# Altium footprint library WURTH_750035020.PcbLib: 1 footprints
Each footprint in its own frame and in the unit in brackets; x right, y up, seen from the top. Pads: shape width x height; smd on the part's side, far side on the other; paste and mask are expansions set on the pad; w line width, h text height; cw(c..) or ccw(c..) is an arc to the next point about the centre after c.
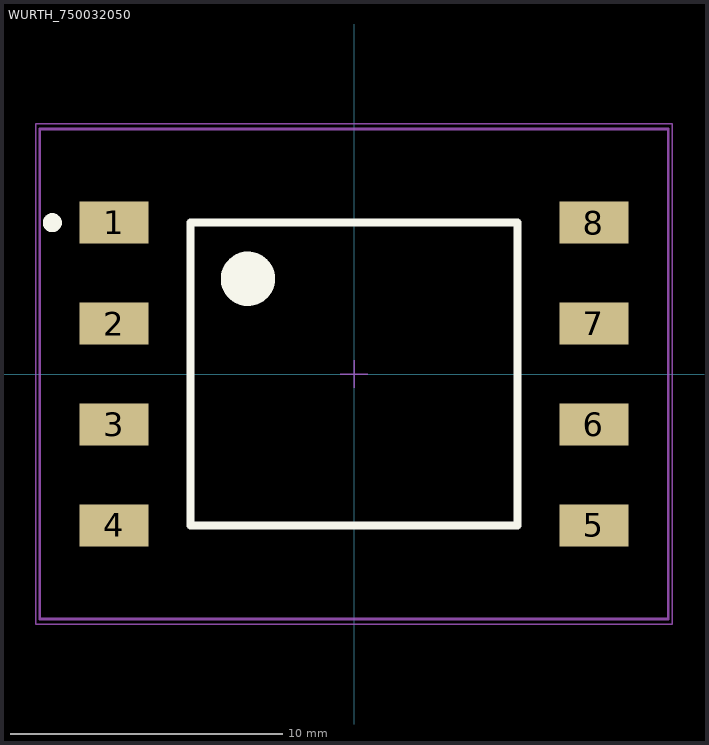
[diagram p0: the footprint, top view; thin cyan lines are the x and y axes]

## WURTH_750032050 [mm] "WURTH_750032050"
height 9.4
pads (8):
  rect 2.54x1.55 smd: 1(-8.825,5.565) 2(-8.825,1.855) 3(-8.825,-1.855) 4(-8.825,-5.565) 5(8.825,-5.565) 6(8.825,-1.855) 7(8.825,1.855) 8(8.825,5.565)
Top Overlay:
  circle w0.5: c-11.095,5.565 r0.1
  circle w1: c-3.9,3.5 r0.5
  lines w0.3: -6.015,-5.565 6.015,-5.565 6.015,5.565 -6.015,5.565 -6.015,-5.565
Mechanical 13:
  lines w0.1: -11.555,-9.005 11.555,-9.005 11.555,9.005 -11.555,9.005 -11.555,-9.005
Mechanical 15:
  lines w0.05: -0.5,0 0.5,0 ; 0,-0.5 0,0.5 ; -11.7,-9.2 -11.7,9.2 11.7,9.2 11.7,-9.2 -11.7,-9.2
3D body: height 9.4, standoff 0, extent -11.555,-9.005 11.555,9.005